# EAGLE library part CSD19531Q5AT (library SamacSys_Parts)
Texas Instruments CSD19531Q5AT N-channel MOSFET Transistor, 110 A, 100 V, 8-Pin VSON Source: Datasheet <http://www.ti.com/general/docs/lit/getliterature.tsp?genericPartNumber=CSD19531Q5A&&fileType=pdf>
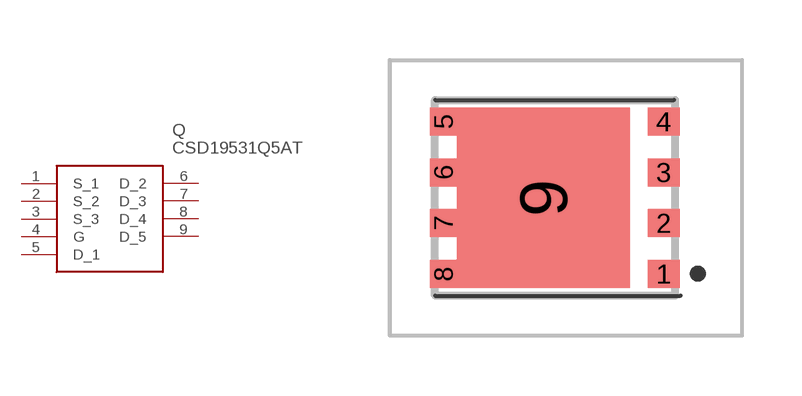
[diagram p9: symbol with the pads of CSD19531Q5AT; footprint CSD19531Q5AT]

Designator prefix Q

## CSD19531Q5AT (DESCRIPTION: Texas Instruments CSD19531Q5AT N-channel MOSFET Transistor, 110 A, 100 V, 8-Pin VSON; HEIGHT: 1mm; MANUFACTURER_NAME: Texas Instruments; MANUFACTURER_PART_NUMBER: CSD19531Q5AT; MOUSER_PART_NUMBER: 595-CSD19531Q5AT; MOUSER_PRICE-STOCK: https://www.mouser.com/Search/Refine.aspx?Keyword=595-CSD19531Q5AT; RS_PART_NUMBER: 8239259P; RS_PRICE-STOCK: http://uk.rs-online.com/web/p/products/8239259P)  [CSD19531Q5AT]
1  S_1
2  S_2
3  S_3
4  G
5  D_1
6  D_2
7  D_3
8  D_4
9  D_5

## Footprint CSD19531Q5AT (pad centres in mm)
DQJ (CSD19531Q5AT)
smd 0.8 x 0.7: 1 2.451,-1.905; 2 2.451,-0.635; 3 2.451,0.635; 4 2.451,1.905
smd 0.68 x 0.7: 5 -3.064,1.905; 6 -3.064,0.635; 7 -3.064,-0.635; 8 -3.064,-1.905
smd 4.32 x 4.51: 9 -0.564,0